# EAGLE library part ADXL345 (library Sensor)
Digital Accelerometer Datasheet <https://www.analog.com/media/en/technical-documentation/data-sheets/ADXL345.pdf>
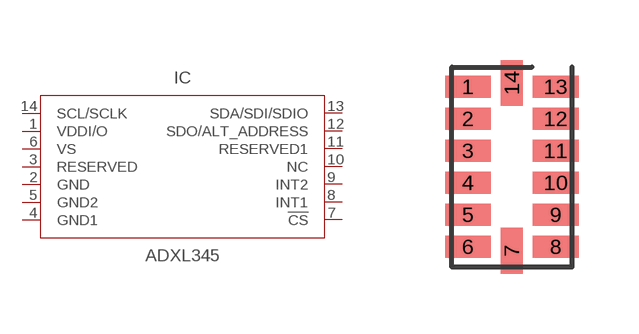
[diagram p2: symbol with the pads of ADXL345_LGA14; footprint ADXL345_LGA14]

Designator prefix IC

## ADXL345BCCZ-RL (CATEGORY: SENSOR; DESCRIPTION: Digital Accelerometer; MANUFACTURER: ANALOG DEVICES; MPN: ADXL345BCCZ-RL; OPERATING_TEMPERATURE: −55°C to +105°C; PART_STATUS: ACTIVE; ROHS_COMPLIANT: RoHS Compliant; SERIES: ADXL345; SUB-CATEGORY: Accelerometer; TYPE: 3-Axis Digital MEMS Accelerometer; VALUE: ADXL345)  [ADXL345_LGA14]
1  VDDI/O
2  GND
3  RESERVED
4  GND1
5  GND2
6  VS
7  !CS
8  INT1
9  INT2
10  NC
11  RESERVED1
12  SDO/ALT_ADDRESS
13  SDA/SDI/SDIO
14  SCL/SCLK

## Footprint ADXL345_LGA14 (pad centres in mm)
smd 1.145 x 0.55: 1 -1.097,2; 2 -1.097,1.2; 3 -1.097,0.4; 4 -1.097,-0.4; 5 -1.097,-1.2; 6 -1.097,-2; 8 1.097,-2; 9 1.097,-1.2; 10 1.097,-0.4; 11 1.097,0.4; 12 1.097,1.2; 13 1.097,2
smd 0.55 x 1.145: 7 0,-2.098; 14 0,2.098